# Altium integrated library cree.IntLib: 1 symbol
Pins are listed as number, name and electrical type; pins without a type are passive.

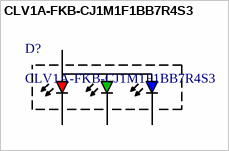
[diagram p0: symbol CLV1A-FKB-CJ1M1F1BB7R4S3]

## CLV1A-FKB-CJ1M1F1BB7R4S3
designator D?
Standard LEDs - SMD RGB LED
footprint PLCC4
pins: 1 CRED, 2 A, 3 CBLUE, 4 CGREEN